# Altium footprint library Connectors_SPOX.PcbLib: 5 footprints
Each footprint in its own frame and in the unit in brackets; x right, y up, seen from the top. Pads: shape width x height; smd on the part's side, far side on the other; paste and mask are expansions set on the pad; w line width, h text height; cw(c..) or ccw(c..) is an arc to the next point about the centre after c.
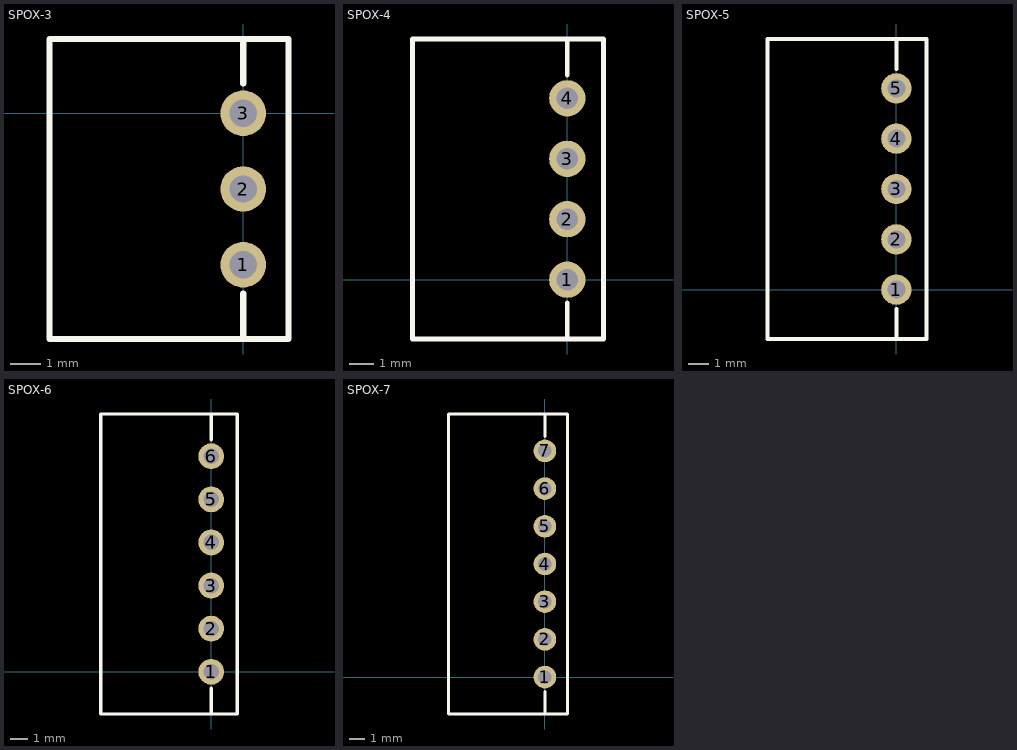
[diagram p0: the footprints below, top view; thin cyan lines are the x and y axes]

## SPOX-3 [mm]
pads (3):
  round 1.5 hole 0.9: 1(0,-5) 2(0,-2.5) 3(0,0)
Top Overlay:
  lines w0.2: 0,-7.425 0,-5.95 ; 0,0.975 0,2.45 ; 0,2.45 1.5,2.45 ; 0,2.45 0,2.45 ; 1.5,2.45 1.5,-7.45 -6.4,-7.45 -6.4,2.45 1.5,2.45
3D body "SPOX-3.stp": height 4.85, standoff -3.55, extent -6.4,-7.45 1.5,2.45

## SPOX-4 [mm] "SPOX connector 4pin"
pads (4):
  round 1.5 hole 0.9: 1(0,0) 2(0,2.5) 3(0,5) 4(0,7.5)
Top Overlay:
  lines w0.2: -6.4,0.05 -6.4,9.95 1.5,9.95 1.5,0.05 ; -6.4,7.45 -6.4,-2.45 1.5,-2.45 1.5,7.45 ; 0,-2.425 0,-0.95 ; 0,8.45 0,9.925
3D body "SPOX-4.stp": height 4.85, standoff -3.55, extent -6.4,-2.45 1.5,9.95

## SPOX-5 [mm]
pads (5):
  round 1.5 hole 0.9: 1(0,0) 2(0,2.5) 3(0,5) 4(0,7.5) 5(0,10)
Top Overlay:
  lines w0.2: -6.4,2.55 -6.4,12.45 1.5,12.45 1.5,2.55 ; -6.4,7.45 -6.4,-2.45 1.5,-2.45 1.5,7.45 ; 0,-2.425 0,-0.95 ; 0,10.95 0,12.425
3D body "SPOX-5.stp": height 4.85, standoff -3.55, extent -6.4,-2.45 1.5,12.45

## SPOX-6 [mm]
pads (6):
  round 1.5 hole 0.9: 1(0,0) 2(0,2.5) 3(0,5) 4(0,7.5) 5(0,10) 6(0,12.5)
Top Overlay:
  lines w0.2: -6.4,5.05 -6.4,14.95 1.5,14.95 1.5,5.05 ; -6.4,7.45 -6.4,-2.45 1.5,-2.45 1.5,7.45 ; 0,-2.425 0,-0.95 ; 0,13.45 0,14.925
3D body "SPOX-6.stp": height 4.85, standoff -3.55, extent -6.4,-2.45 1.5,14.95

## SPOX-7 [mm]
pads (7):
  round 1.5 hole 0.9: 1(0,0) 2(0,2.5) 3(0,5) 4(0,7.5) 5(0,10) 6(0,12.5) 7(0,15)
Top Overlay:
  lines w0.2: -6.4,7.45 -6.4,-2.45 1.5,-2.45 1.5,7.45 ; -6.4,7.55 -6.4,17.45 1.5,17.45 1.5,7.55 ; 0,-2.425 0,-0.95 ; 0,15.95 0,17.425
3D body "SPOX-7.stp": height 4.85, standoff -3.55, extent -6.4,-2.45 1.5,17.45